# Altium schematic symbol library PESDxL1BA.Schlib: 1 symbol
Pins are listed as number, name and electrical type; pins without a type are passive.

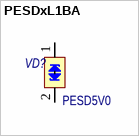
[diagram p0: symbol PESDxL1BA]

## PESDxL1BA
designator VD?, comment PESD5V0
Low capacitance bidirectional ESD protection diodes; Назначение: ESD защитные диоды; Потребление, Вт: 0.0; Наименование: PESDxL1BA; ComponentLink1Description: DataSheet; ComponentLink1URL: https://static.chipdip.ru/lib/635/DOC005635911.pdf
footprint SOD-323 (SC-76 plastic surface mounted package; 2 leads)
pins: 1 cathode 1, 2 cathode 2